# EAGLE library part MC05/08 (library con-phoenix-250)
COMBICON MC - 1881503
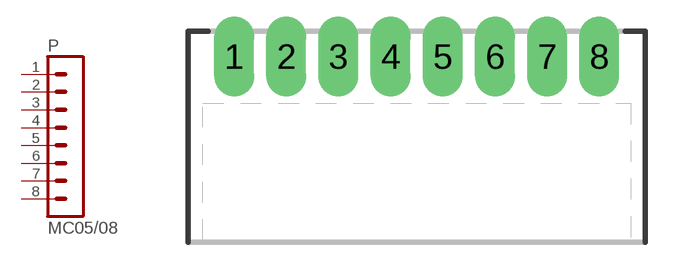
[diagram p2: symbol with the pads of MC05/08; footprint MC05/08]

Designator prefix P

## MC05/08  [MC05/08]
1  1  pas
2  2  pas
3  3  pas
4  4  pas
5  5  pas
6  6  pas
7  7  pas
8  8  pas

## Footprint MC05/08 (pad centres in mm)
HEADER
drill 1.27 long: 1 -8.75,0; 2 -6.25,0; 3 -3.75,0; 4 -1.25,0; 5 1.25,0; 6 3.75,0; 7 6.25,0; 8 8.75,0